# Altium schematic symbol library NE5532N.SchLib: 1 symbol
Pins are listed as number, name and electrical type; pins without a type are passive.

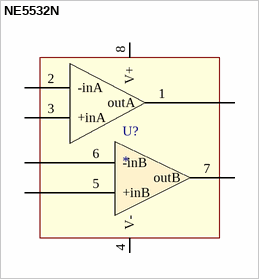
[diagram p0: symbol NE5532N]

## NE5532N
designator U?
pins: 1 outA, 2 -inA, 3 +inA, 4 V-, 5 +inB, 6 -inB, 7 outB, 8 V+